# Altium footprint library Symbol.PcbLib: 206 footprints (part 10 of 15)
Each footprint in its own frame and in the unit in brackets; x right, y up, seen from the top. Pads: shape width x height; smd on the part's side, far side on the other; paste and mask are expansions set on the pad; w line width, h text height; cw(c..) or ccw(c..) is an arc to the next point about the centre after c.
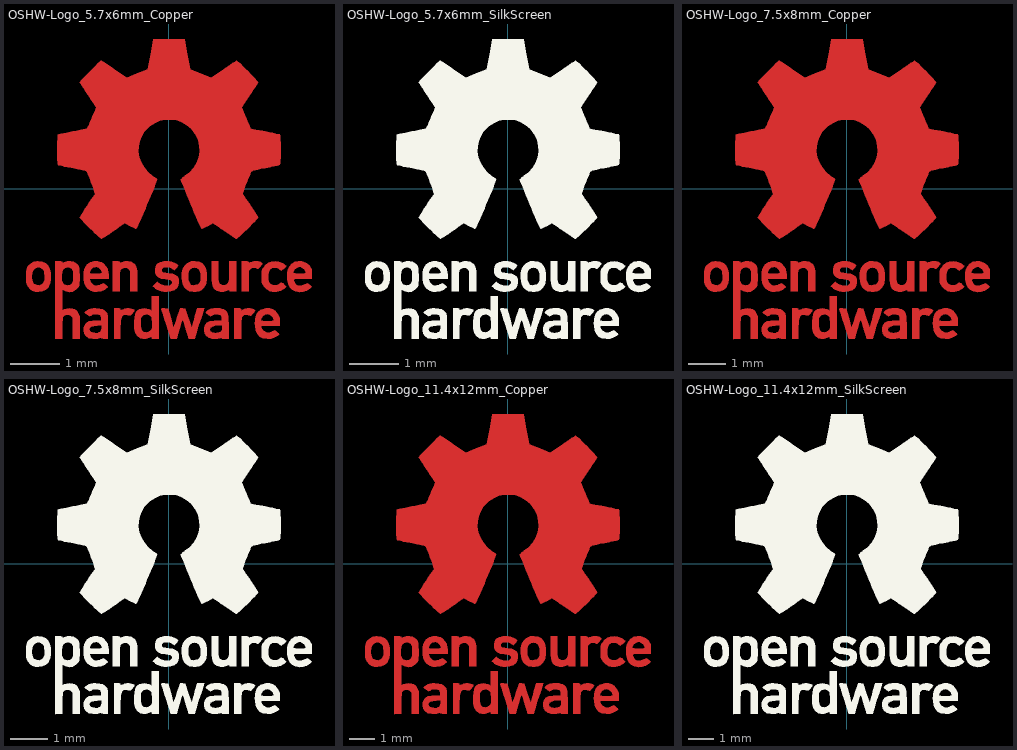
[diagram p9: the footprints below, top view; thin cyan lines are the x and y axes]

## OSHW-Logo_5.7x6mm_Copper [mm]
F.Cu:
  region: 1.799,-1.458 1.843,-1.471 1.871,-1.488 1.88,-1.501 1.877,-1.517 1.861,-1.541 1.847,-1.559 1.819,-1.59 1.798,-1.604 1.78,-1.603 1.726,-1.589 1.687,-1.59 1.655,-1.605 1.644,-1.614 1.61,-1.646 1.61,-2.062 1.471,-2.062 1.471,-1.459 1.54,-1.459 1.582,-1.46 1.603,-1.466 1.61,-1.477 1.61,-1.478 1.612,-1.49 1.626,-1.488 1.644,-1.48 1.682,-1.464 1.713,-1.454 1.753,-1.451
  region: 1.635,-2.401 1.684,-2.411 1.711,-2.425 1.74,-2.449 1.699,-2.501 1.673,-2.532 1.656,-2.547 1.639,-2.55 1.614,-2.542 1.602,-2.538 1.554,-2.532 1.51,-2.545 1.478,-2.576 1.473,-2.585 1.467,-2.611 1.463,-2.659 1.46,-2.725 1.459,-2.806 1.459,-2.817 1.459,-3.018 1.32,-3.018 1.32,-2.402 1.389,-2.402 1.429,-2.403 1.45,-2.407 1.458,-2.418 1.459,-2.428 1.459,-2.454 1.492,-2.428 1.53,-2.41 1.581,-2.401
  region: -0.993,-2.403 -0.975,-2.409 -0.968,-2.421 -0.968,-2.427 -0.967,-2.442 -0.96,-2.445 -0.939,-2.434 -0.927,-2.427 -0.889,-2.411 -0.844,-2.403 -0.797,-2.403 -0.752,-2.409 -0.716,-2.42 -0.693,-2.436 -0.688,-2.456 -0.69,-2.462 -0.707,-2.485 -0.733,-2.513 -0.738,-2.517 -0.762,-2.538 -0.784,-2.545 -0.814,-2.54 -0.826,-2.537 -0.863,-2.529 -0.889,-2.533 -0.911,-2.545 -0.931,-2.561 -0.946,-2.581 -0.956,-2.609 -0.963,-2.648 -0.967,-2.704 -0.968,-2.779 -0.968,-2.824 -0.968,-3.018 -1.094,-3.018 -1.094,-2.402 -1.031,-2.402
  region: 1.358,-2.062 1.289,-2.062 1.247,-2.06 1.226,-2.055 1.22,-2.043 1.216,-2.033 1.202,-2.035 1.173,-2.05 1.106,-2.071 1.036,-2.07 0.968,-2.046 0.936,-2.027 0.912,-2.007 0.894,-1.982 0.881,-1.947 0.874,-1.901 0.87,-1.839 0.868,-1.758 0.868,-1.695 0.868,-1.459 0.993,-1.459 0.993,-1.654 0.995,-1.747 0.999,-1.817 1.008,-1.867 1.022,-1.902 1.042,-1.923 1.071,-1.933 1.107,-1.936 1.144,-1.933 1.172,-1.922 1.192,-1.9 1.206,-1.865 1.214,-1.814 1.219,-1.742 1.22,-1.654 1.22,-1.459 1.358,-1.459
  region: -0.754,-1.469 -0.723,-1.484 -0.692,-1.506 -0.669,-1.53 -0.653,-1.562 -0.641,-1.604 -0.634,-1.66 -0.63,-1.734 -0.629,-1.829 -0.629,-1.839 -0.629,-2.062 -0.767,-2.062 -0.767,-1.856 -0.767,-1.78 -0.768,-1.725 -0.77,-1.687 -0.773,-1.661 -0.779,-1.643 -0.788,-1.63 -0.8,-1.618 -0.843,-1.59 -0.89,-1.585 -0.934,-1.602 -0.95,-1.615 -0.961,-1.627 -0.969,-1.641 -0.975,-1.659 -0.978,-1.686 -0.98,-1.726 -0.981,-1.784 -0.981,-1.854 -0.981,-2.062 -1.119,-2.062 -1.119,-1.459 -1.05,-1.459 -1.008,-1.46 -0.987,-1.466 -0.981,-1.477 -0.981,-1.478 -0.978,-1.489 -0.965,-1.488 -0.94,-1.475 -0.883,-1.457 -0.817,-1.455
  region: 2.217,-1.464 2.29,-1.495 2.313,-1.51 2.342,-1.533 2.361,-1.551 2.364,-1.557 2.355,-1.57 2.332,-1.593 2.313,-1.608 2.263,-1.649 2.223,-1.615 2.192,-1.594 2.162,-1.586 2.127,-1.588 2.073,-1.602 2.035,-1.63 2.012,-1.675 2.002,-1.741 2.002,-1.815 2.016,-1.869 2.044,-1.906 2.063,-1.918 2.114,-1.934 2.168,-1.934 2.215,-1.919 2.226,-1.911 2.253,-1.893 2.275,-1.889 2.299,-1.903 2.325,-1.929 2.366,-1.971 2.32,-2.008 2.25,-2.051 2.17,-2.072 2.087,-2.07 2.033,-2.056 1.969,-2.022 1.918,-1.968 1.895,-1.93 1.876,-1.876 1.867,-1.806 1.867,-1.731 1.876,-1.659 1.894,-1.599 1.897,-1.593 1.94,-1.532 1.998,-1.488 2.067,-1.461 2.141,-1.453
  region: 0.611,-1.466 0.674,-1.501 0.724,-1.555 0.748,-1.6 0.758,-1.639 0.764,-1.695 0.767,-1.76 0.766,-1.824 0.761,-1.881 0.755,-1.912 0.734,-1.953 0.698,-1.997 0.656,-2.036 0.613,-2.061 0.612,-2.061 0.56,-2.072 0.497,-2.073 0.438,-2.063 0.415,-2.055 0.356,-2.021 0.314,-1.978 0.286,-1.92 0.271,-1.844 0.267,-1.804 0.268,-1.754 0.268,-1.698 0.285,-1.611 0.319,-1.543 0.369,-1.494 0.435,-1.464 0.45,-1.46 0.535,-1.452 hole: 0.522,-1.586 0.475,-1.596 0.439,-1.621 0.42,-1.642 0.409,-1.662 0.404,-1.69 0.402,-1.733 0.402,-1.754 0.407,-1.827 0.42,-1.882 0.441,-1.918 0.456,-1.928 0.493,-1.935 0.539,-1.933 0.577,-1.923 0.588,-1.917 0.615,-1.885 0.632,-1.835 0.64,-1.774 0.636,-1.708 0.628,-1.669 0.604,-1.624 0.567,-1.595
  region: 0.282,-2.404 0.331,-2.408 0.461,-2.798 0.482,-2.729 0.494,-2.686 0.51,-2.628 0.528,-2.565 0.537,-2.531 0.571,-2.402 0.714,-2.402 0.672,-2.537 0.651,-2.603 0.625,-2.684 0.599,-2.767 0.575,-2.842 0.521,-3.012 0.463,-3.015 0.404,-3.019 0.373,-2.915 0.353,-2.85 0.332,-2.778 0.313,-2.715 0.313,-2.713 0.299,-2.67 0.286,-2.641 0.278,-2.63 0.276,-2.631 0.27,-2.648 0.258,-2.685 0.242,-2.736 0.224,-2.798 0.214,-2.832 0.159,-3.018 0.043,-3.018 -0.049,-2.725 -0.075,-2.643 -0.099,-2.569 -0.119,-2.506 -0.135,-2.457 -0.145,-2.426 -0.148,-2.417 -0.146,-2.407 -0.127,-2.403 -0.087,-2.404 -0.081,-2.404 -0.008,-2.408 0.04,-2.584 0.058,-2.648 0.073,-2.705 0.086,-2.748 0.094,-2.775 0.095,-2.779 0.101,-2.774 0.113,-2.749 0.13,-2.706 0.15,-2.65 0.167,-2.599 0.232,-2.401
  region: -2.538,-1.465 -2.472,-1.494 -2.423,-1.543 -2.388,-1.611 -2.37,-1.699 -2.369,-1.712 -2.368,-1.809 -2.381,-1.894 -2.408,-1.962 -2.423,-1.984 -2.473,-2.031 -2.538,-2.061 -2.61,-2.074 -2.683,-2.067 -2.739,-2.048 -2.787,-2.015 -2.826,-1.971 -2.827,-1.97 -2.843,-1.943 -2.853,-1.916 -2.86,-1.882 -2.863,-1.834 -2.865,-1.795 -2.866,-1.759 -2.866,-1.717 -2.864,-1.658 -2.856,-1.614 -2.843,-1.579 -2.822,-1.549 -2.814,-1.539 -2.766,-1.494 -2.714,-1.467 -2.651,-1.456 -2.62,-1.455 hole: -2.637,-1.588 -2.678,-1.603 -2.713,-1.635 -2.733,-1.687 -2.74,-1.759 -2.739,-1.795 -2.734,-1.842 -2.726,-1.872 -2.712,-1.894 -2.699,-1.907 -2.652,-1.933 -2.603,-1.937 -2.557,-1.918 -2.534,-1.896 -2.517,-1.875 -2.507,-1.854 -2.503,-1.828 -2.503,-1.788 -2.504,-1.751 -2.507,-1.698 -2.512,-1.664 -2.52,-1.641 -2.533,-1.624 -2.544,-1.615 -2.589,-1.589
  region: -0.201,-3.018 -0.27,-3.018 -0.31,-3.017 -0.331,-3.012 -0.339,-3.001 -0.34,-2.994 -0.341,-2.98 -0.349,-2.977 -0.37,-2.986 -0.386,-2.994 -0.449,-3.014 -0.517,-3.015 -0.573,-3 -0.624,-2.965 -0.664,-2.913 -0.685,-2.851 -0.686,-2.848 -0.689,-2.811 -0.691,-2.757 -0.691,-2.716 -0.691,-2.696 -0.69,-2.663 -0.684,-2.581 -0.671,-2.52 -0.649,-2.474 -0.618,-2.441 -0.587,-2.421 -0.544,-2.407 -0.491,-2.402 -0.436,-2.406 -0.39,-2.418 -0.365,-2.433 -0.34,-2.456 -0.34,-2.163 -0.201,-2.163 hole: -0.463,-2.532 -0.504,-2.545 -0.534,-2.573 -0.537,-2.578 -0.547,-2.612 -0.552,-2.661 -0.553,-2.716 -0.55,-2.77 -0.543,-2.815 -0.533,-2.84 -0.496,-2.874 -0.452,-2.887 -0.407,-2.877 -0.368,-2.847 -0.353,-2.827 -0.345,-2.803 -0.34,-2.768 -0.34,-2.716 -0.341,-2.664 -0.346,-2.619 -0.353,-2.588 -0.354,-2.585 -0.38,-2.553 -0.42,-2.535
  region: 2.678,-1.456 2.71,-1.464 2.772,-1.493 2.825,-1.537 2.861,-1.589 2.866,-1.601 2.873,-1.632 2.878,-1.677 2.88,-1.723 2.88,-1.811 2.697,-1.811 2.622,-1.811 2.569,-1.813 2.535,-1.817 2.518,-1.826 2.514,-1.84 2.521,-1.86 2.533,-1.884 2.566,-1.925 2.612,-1.945 2.669,-1.944 2.733,-1.922 2.788,-1.895 2.834,-1.932 2.88,-1.968 2.837,-2.008 2.779,-2.046 2.708,-2.068 2.632,-2.075 2.558,-2.063 2.546,-2.059 2.481,-2.026 2.433,-1.975 2.4,-1.906 2.382,-1.818 2.382,-1.816 2.381,-1.72 2.387,-1.686 2.397,-1.635 2.429,-1.564 2.475,-1.509 2.533,-1.471 2.601,-1.453 hole: 2.658,-1.579 2.616,-1.58 2.574,-1.598 2.539,-1.629 2.518,-1.666 2.515,-1.686 2.527,-1.691 2.558,-1.695 2.605,-1.697 2.635,-1.698 2.691,-1.697 2.725,-1.696 2.744,-1.692 2.75,-1.685 2.748,-1.674 2.747,-1.669 2.724,-1.627 2.689,-1.594
  region: 0.014,-1.456 0.062,-1.465 0.111,-1.484 0.116,-1.487 0.154,-1.506 0.18,-1.525 0.188,-1.537 0.18,-1.556 0.161,-1.584 0.152,-1.594 0.117,-1.636 0.071,-1.609 0.027,-1.591 -0.023,-1.581 -0.071,-1.581 -0.109,-1.59 -0.117,-1.595 -0.135,-1.621 -0.137,-1.651 -0.124,-1.674 -0.116,-1.679 -0.094,-1.684 -0.054,-1.691 -0.005,-1.697 0.004,-1.698 0.083,-1.712 0.14,-1.735 0.178,-1.77 0.199,-1.818 0.206,-1.878 0.197,-1.945 0.167,-1.998 0.117,-2.037 0.047,-2.061 -0.031,-2.071 -0.095,-2.071 -0.147,-2.062 -0.182,-2.05 -0.227,-2.029 -0.268,-2.005 -0.283,-1.994 -0.321,-1.963 -0.275,-1.917 -0.23,-1.871 -0.178,-1.905 -0.126,-1.931 -0.071,-1.944 -0.017,-1.946 0.028,-1.935 0.06,-1.914 0.07,-1.895 0.069,-1.865 0.043,-1.843 -0.007,-1.827 -0.061,-1.82 -0.145,-1.806 -0.207,-1.78 -0.248,-1.741 -0.27,-1.688 -0.273,-1.625 -0.258,-1.56 -0.225,-1.51 -0.171,-1.476 -0.099,-1.458 -0.045,-1.455
  region: 2.033,-2.405 2.093,-2.421 2.143,-2.453 2.167,-2.477 2.207,-2.534 2.23,-2.6 2.238,-2.681 2.238,-2.688 2.238,-2.754 1.858,-2.754 1.866,-2.788 1.881,-2.82 1.907,-2.852 1.912,-2.857 1.958,-2.886 2.01,-2.89 2.071,-2.872 2.081,-2.867 2.112,-2.852 2.133,-2.843 2.137,-2.842 2.15,-2.85 2.174,-2.869 2.187,-2.879 2.212,-2.903 2.221,-2.919 2.215,-2.934 2.212,-2.938 2.191,-2.955 2.156,-2.976 2.131,-2.988 2.062,-3.01 1.985,-3.017 1.913,-3.009 1.892,-3.003 1.829,-2.969 1.783,-2.917 1.752,-2.846 1.737,-2.757 1.736,-2.71 1.74,-2.641 1.743,-2.61 1.764,-2.531 1.8,-2.471 1.852,-2.431 1.92,-2.408 1.957,-2.404 hole: 1.991,-2.525 1.942,-2.534 1.9,-2.561 1.871,-2.6 1.861,-2.641 1.873,-2.646 1.904,-2.65 1.95,-2.653 1.98,-2.653 2.036,-2.653 2.071,-2.651 2.09,-2.647 2.098,-2.639 2.1,-2.628 2.089,-2.594 2.062,-2.561 2.026,-2.535
  region: -1.357,-1.473 -1.344,-1.479 -1.301,-1.51 -1.26,-1.557 -1.229,-1.608 -1.22,-1.631 -1.213,-1.673 -1.208,-1.724 -1.207,-1.745 -1.207,-1.811 -1.587,-1.811 -1.579,-1.845 -1.559,-1.886 -1.524,-1.922 -1.483,-1.944 -1.457,-1.949 -1.421,-1.943 -1.378,-1.929 -1.364,-1.922 -1.31,-1.896 -1.265,-1.93 -1.238,-1.954 -1.224,-1.973 -1.223,-1.979 -1.236,-1.993 -1.263,-2.014 -1.288,-2.03 -1.356,-2.06 -1.431,-2.073 -1.506,-2.07 -1.565,-2.052 -1.627,-2.013 -1.671,-1.962 -1.698,-1.895 -1.71,-1.811 -1.711,-1.773 -1.707,-1.685 -1.706,-1.682 -1.692,-1.616 -1.666,-1.56 -1.634,-1.521 -1.574,-1.478 -1.504,-1.455 -1.43,-1.453 hole: -1.464,-1.579 -1.512,-1.591 -1.552,-1.622 -1.577,-1.668 -1.578,-1.669 -1.581,-1.682 -1.577,-1.691 -1.563,-1.695 -1.533,-1.697 -1.485,-1.698 -1.466,-1.698 -1.408,-1.697 -1.372,-1.694 -1.353,-1.689 -1.346,-1.681 -1.345,-1.679 -1.353,-1.658 -1.373,-1.63 -1.382,-1.62 -1.413,-1.591 -1.446,-1.58
  region: 1.038,-2.405 1.091,-2.418 1.107,-2.425 1.136,-2.443 1.159,-2.463 1.176,-2.489 1.188,-2.524 1.196,-2.572 1.201,-2.636 1.204,-2.72 1.205,-2.776 1.209,-3.018 1.139,-3.018 1.096,-3.016 1.074,-3.01 1.069,-3 1.066,-2.989 1.052,-2.991 1.034,-3 0.989,-3.013 0.93,-3.017 0.868,-3.011 0.814,-2.996 0.809,-2.993 0.759,-2.958 0.726,-2.909 0.711,-2.852 0.712,-2.832 0.714,-2.792 0.737,-2.735 0.768,-2.697 0.786,-2.68 0.805,-2.669 0.829,-2.662 0.864,-2.658 0.917,-2.656 0.938,-2.655 1.069,-2.651 1.069,-2.611 1.064,-2.569 1.045,-2.544 1.008,-2.528 1.007,-2.528 0.954,-2.521 0.903,-2.53 0.865,-2.55 0.849,-2.56 0.833,-2.558 0.807,-2.544 0.792,-2.534 0.763,-2.512 0.745,-2.496 0.742,-2.491 0.754,-2.467 0.789,-2.438 0.805,-2.428 0.849,-2.412 0.908,-2.402 0.974,-2.4 hole: 1.069,-2.754 1.008,-2.754 0.936,-2.757 0.886,-2.769 0.855,-2.789 0.848,-2.798 0.836,-2.832 0.846,-2.859 0.879,-2.879 0.931,-2.89 0.959,-2.891 1.005,-2.888 1.036,-2.874 1.044,-2.867 1.064,-2.831 1.069,-2.798
  region: -1.384,-2.407 -1.325,-2.422 -1.28,-2.451 -1.248,-2.488 -1.238,-2.504 -1.231,-2.521 -1.226,-2.543 -1.223,-2.573 -1.221,-2.615 -1.22,-2.674 -1.22,-2.753 -1.22,-2.774 -1.22,-3.018 -1.28,-3.018 -1.319,-3.015 -1.347,-3.008 -1.354,-3.004 -1.374,-2.997 -1.394,-3.004 -1.426,-3.013 -1.474,-3.017 -1.527,-3.015 -1.575,-3.009 -1.603,-3 -1.658,-2.965 -1.692,-2.916 -1.707,-2.852 -1.707,-2.85 -1.706,-2.822 -1.704,-2.78 -1.681,-2.724 -1.637,-2.682 -1.631,-2.678 -1.605,-2.665 -1.573,-2.658 -1.528,-2.654 -1.474,-2.653 -1.358,-2.653 -1.358,-2.604 -1.363,-2.567 -1.376,-2.541 -1.377,-2.54 -1.405,-2.529 -1.447,-2.525 -1.494,-2.527 -1.535,-2.535 -1.56,-2.547 -1.573,-2.557 -1.587,-2.559 -1.607,-2.551 -1.636,-2.531 -1.68,-2.497 -1.684,-2.494 -1.682,-2.482 -1.665,-2.463 -1.638,-2.441 -1.61,-2.423 -1.6,-2.419 -1.567,-2.41 -1.519,-2.404 -1.465,-2.402 -1.462,-2.402 hole: -1.358,-2.754 -1.428,-2.754 -1.494,-2.759 -1.544,-2.773 -1.575,-2.796 -1.584,-2.822 -1.574,-2.854 -1.556,-2.873 -1.522,-2.886 -1.476,-2.892 -1.429,-2.889 -1.392,-2.878 -1.381,-2.871 -1.363,-2.839 -1.358,-2.802
  region: -1.909,-1.469 -1.882,-1.482 -1.85,-1.505 -1.826,-1.53 -1.809,-1.561 -1.799,-1.603 -1.794,-1.66 -1.792,-1.736 -1.792,-1.769 -1.792,-1.841 -1.794,-1.892 -1.796,-1.927 -1.802,-1.952 -1.81,-1.97 -1.818,-1.982 -1.87,-2.034 -1.932,-2.065 -1.999,-2.075 -2.066,-2.061 -2.087,-2.051 -2.138,-2.025 -2.138,-2.44 -2.101,-2.421 -2.052,-2.406 -1.992,-2.402 -1.932,-2.409 -1.886,-2.425 -1.849,-2.455 -1.817,-2.498 -1.814,-2.502 -1.804,-2.523 -1.797,-2.544 -1.791,-2.57 -1.788,-2.604 -1.786,-2.651 -1.786,-2.715 -1.786,-2.787 -1.786,-3.018 -1.924,-3.018 -1.924,-2.593 -1.963,-2.56 -2.003,-2.534 -2.041,-2.529 -2.079,-2.541 -2.099,-2.553 -2.115,-2.57 -2.125,-2.596 -2.133,-2.634 -2.137,-2.688 -2.14,-2.761 -2.141,-2.81 -2.144,-3.012 -2.21,-3.015 -2.276,-3.019 -2.276,-1.771 -2.276,-1.459 -2.207,-1.459 -2.165,-1.46 -2.144,-1.466 -2.138,-1.477 -2.138,-1.478 -2.135,-1.489 -2.122,-1.488 -2.097,-1.475 -2.038,-1.457 -1.972,-1.455 hole: -2.052,-1.585 -2.08,-1.592 -2.109,-1.616 -2.128,-1.664 -2.137,-1.734 -2.138,-1.771 -2.134,-1.84 -2.122,-1.889 -2.1,-1.919 -2.066,-1.933 -2.031,-1.936 -1.991,-1.933 -1.965,-1.92 -1.949,-1.902 -1.936,-1.883 -1.928,-1.862 -1.925,-1.832 -1.925,-1.787 -1.926,-1.75 -1.929,-1.694 -1.932,-1.657 -1.939,-1.633 -1.95,-1.617 -1.96,-1.608 -2.002,-1.589
  region: 336 vertices and 0 holes, not listed, extent -2.24,-1.006 2.252,3.012

## OSHW-Logo_5.7x6mm_SilkScreen [mm]
F.SilkS:
  drawing of 18 lines, arcs and shapes, not listed

## OSHW-Logo_7.5x8mm_Copper [mm]
F.Cu:
  region: 2.391,-1.938 2.449,-1.955 2.486,-1.977 2.498,-1.995 2.495,-2.016 2.473,-2.048 2.455,-2.072 2.417,-2.113 2.389,-2.131 2.365,-2.13 2.294,-2.112 2.241,-2.113 2.199,-2.133 2.185,-2.145 2.139,-2.187 2.139,-2.741 1.955,-2.741 1.955,-1.938 2.047,-1.938 2.102,-1.941 2.131,-1.948 2.139,-1.963 2.139,-1.964 2.143,-1.98 2.16,-1.978 2.185,-1.966 2.235,-1.945 2.276,-1.932 2.329,-1.929
  region: 2.173,-3.191 2.237,-3.204 2.274,-3.223 2.312,-3.254 2.258,-3.323 2.224,-3.365 2.201,-3.385 2.178,-3.389 2.145,-3.378 2.129,-3.373 2.066,-3.364 2.007,-3.382 1.964,-3.423 1.957,-3.436 1.95,-3.47 1.944,-3.533 1.94,-3.621 1.938,-3.729 1.938,-3.744 1.938,-4.011 1.755,-4.011 1.755,-3.192 1.847,-3.192 1.9,-3.193 1.927,-3.199 1.937,-3.213 1.938,-3.226 1.938,-3.261 1.982,-3.226 2.033,-3.203 2.101,-3.191
  region: -1.32,-3.193 -1.295,-3.201 -1.287,-3.217 -1.287,-3.225 -1.285,-3.246 -1.275,-3.249 -1.248,-3.235 -1.232,-3.225 -1.182,-3.204 -1.122,-3.194 -1.059,-3.193 -0.999,-3.201 -0.951,-3.216 -0.92,-3.237 -0.914,-3.264 -0.917,-3.272 -0.94,-3.302 -0.974,-3.339 -0.98,-3.345 -1.013,-3.373 -1.042,-3.382 -1.081,-3.376 -1.097,-3.371 -1.146,-3.361 -1.181,-3.366 -1.211,-3.382 -1.237,-3.403 -1.257,-3.43 -1.271,-3.467 -1.28,-3.52 -1.285,-3.593 -1.287,-3.693 -1.287,-3.753 -1.287,-4.011 -1.454,-4.011 -1.454,-3.192 -1.37,-3.192
  region: 1.805,-2.741 1.713,-2.741 1.657,-2.738 1.629,-2.73 1.621,-2.715 1.616,-2.702 1.597,-2.705 1.559,-2.724 1.47,-2.753 1.377,-2.751 1.287,-2.719 1.244,-2.694 1.212,-2.667 1.188,-2.633 1.171,-2.588 1.161,-2.526 1.156,-2.444 1.153,-2.336 1.153,-2.252 1.153,-1.938 1.32,-1.938 1.32,-2.199 1.322,-2.321 1.327,-2.414 1.339,-2.482 1.358,-2.527 1.385,-2.555 1.423,-2.569 1.471,-2.572 1.52,-2.568 1.557,-2.554 1.584,-2.525 1.603,-2.479 1.614,-2.41 1.62,-2.316 1.621,-2.199 1.621,-1.938 1.805,-1.938
  region: -1.002,-1.952 -0.96,-1.972 -0.92,-2.001 -0.889,-2.034 -0.867,-2.076 -0.852,-2.132 -0.842,-2.207 -0.838,-2.305 -0.836,-2.431 -0.836,-2.444 -0.836,-2.741 -1.019,-2.741 -1.019,-2.467 -1.019,-2.366 -1.02,-2.292 -1.023,-2.241 -1.028,-2.207 -1.035,-2.184 -1.047,-2.167 -1.063,-2.15 -1.12,-2.113 -1.183,-2.106 -1.242,-2.129 -1.262,-2.147 -1.278,-2.163 -1.288,-2.18 -1.296,-2.204 -1.3,-2.24 -1.302,-2.294 -1.303,-2.371 -1.303,-2.464 -1.303,-2.741 -1.487,-2.741 -1.487,-1.938 -1.395,-1.938 -1.34,-1.941 -1.312,-1.948 -1.303,-1.963 -1.303,-1.964 -1.3,-1.979 -1.283,-1.977 -1.249,-1.961 -1.173,-1.937 -1.086,-1.934
  region: 2.947,-1.945 3.043,-1.987 3.074,-2.007 3.113,-2.037 3.137,-2.062 3.142,-2.069 3.13,-2.087 3.099,-2.117 3.074,-2.137 3.007,-2.191 2.954,-2.147 2.913,-2.118 2.873,-2.108 2.827,-2.11 2.754,-2.128 2.704,-2.166 2.674,-2.227 2.66,-2.314 2.661,-2.412 2.68,-2.484 2.717,-2.533 2.742,-2.549 2.809,-2.57 2.881,-2.57 2.943,-2.55 2.958,-2.54 2.995,-2.515 3.024,-2.511 3.055,-2.53 3.089,-2.563 3.144,-2.619 3.083,-2.669 2.99,-2.726 2.884,-2.753 2.774,-2.751 2.701,-2.733 2.617,-2.687 2.549,-2.616 2.518,-2.565 2.493,-2.492 2.481,-2.401 2.481,-2.301 2.493,-2.205 2.517,-2.125 2.521,-2.117 2.578,-2.036 2.655,-1.978 2.746,-1.942 2.846,-1.931
  region: 0.812,-1.948 0.896,-1.994 0.962,-2.067 0.993,-2.126 1.007,-2.178 1.016,-2.253 1.019,-2.338 1.018,-2.425 1.011,-2.5 1.003,-2.541 0.975,-2.596 0.928,-2.655 0.871,-2.706 0.815,-2.739 0.814,-2.74 0.744,-2.754 0.661,-2.754 0.582,-2.741 0.552,-2.731 0.473,-2.686 0.417,-2.628 0.38,-2.551 0.36,-2.45 0.355,-2.397 0.356,-2.331 0.356,-2.256 0.379,-2.14 0.424,-2.05 0.49,-1.985 0.579,-1.945 0.597,-1.941 0.711,-1.93 hole: 0.693,-2.107 0.631,-2.121 0.584,-2.154 0.559,-2.182 0.544,-2.209 0.537,-2.246 0.535,-2.303 0.535,-2.331 0.541,-2.428 0.558,-2.502 0.586,-2.549 0.605,-2.562 0.656,-2.572 0.716,-2.569 0.767,-2.555 0.781,-2.548 0.817,-2.504 0.84,-2.438 0.851,-2.357 0.846,-2.271 0.835,-2.218 0.803,-2.158 0.753,-2.12
  region: 0.374,-3.195 0.44,-3.2 0.527,-3.459 0.613,-3.718 0.64,-3.626 0.656,-3.569 0.678,-3.493 0.701,-3.408 0.713,-3.363 0.759,-3.192 0.949,-3.192 0.893,-3.371 0.865,-3.46 0.831,-3.566 0.796,-3.677 0.764,-3.777 0.692,-4.002 0.537,-4.012 0.495,-3.874 0.469,-3.787 0.441,-3.692 0.416,-3.608 0.415,-3.605 0.397,-3.548 0.381,-3.509 0.369,-3.495 0.367,-3.496 0.359,-3.519 0.343,-3.568 0.322,-3.637 0.297,-3.719 0.284,-3.764 0.211,-4.011 0.057,-4.011 -0.065,-3.622 -0.1,-3.513 -0.131,-3.414 -0.158,-3.33 -0.179,-3.265 -0.193,-3.224 -0.197,-3.212 -0.193,-3.199 -0.168,-3.194 -0.116,-3.195 -0.108,-3.195 -0.011,-3.2 0.053,-3.434 0.076,-3.519 0.097,-3.594 0.114,-3.653 0.124,-3.687 0.126,-3.693 0.134,-3.686 0.15,-3.653 0.173,-3.596 0.199,-3.522 0.222,-3.454 0.308,-3.19
  region: -3.373,-1.947 -3.286,-1.986 -3.219,-2.05 -3.174,-2.141 -3.149,-2.257 -3.148,-2.276 -3.146,-2.404 -3.164,-2.516 -3.2,-2.608 -3.22,-2.637 -3.287,-2.699 -3.372,-2.739 -3.468,-2.756 -3.566,-2.748 -3.64,-2.721 -3.704,-2.677 -3.756,-2.62 -3.757,-2.618 -3.778,-2.583 -3.792,-2.547 -3.8,-2.502 -3.805,-2.438 -3.807,-2.385 -3.808,-2.338 -3.809,-2.281 -3.806,-2.203 -3.796,-2.145 -3.778,-2.099 -3.75,-2.058 -3.74,-2.046 -3.676,-1.985 -3.607,-1.95 -3.523,-1.935 -3.482,-1.934 hole: -3.505,-2.11 -3.559,-2.13 -3.605,-2.172 -3.632,-2.241 -3.641,-2.338 -3.64,-2.385 -3.634,-2.448 -3.623,-2.488 -3.604,-2.517 -3.587,-2.534 -3.524,-2.569 -3.459,-2.574 -3.398,-2.548 -3.367,-2.52 -3.345,-2.492 -3.332,-2.464 -3.327,-2.429 -3.326,-2.376 -3.328,-2.327 -3.332,-2.256 -3.338,-2.211 -3.348,-2.181 -3.366,-2.159 -3.381,-2.146 -3.44,-2.112
  region: -0.267,-4.011 -0.359,-4.011 -0.413,-4.009 -0.44,-4.002 -0.45,-3.988 -0.451,-3.979 -0.453,-3.96 -0.464,-3.956 -0.491,-3.968 -0.513,-3.979 -0.597,-4.005 -0.687,-4.006 -0.761,-3.987 -0.83,-3.94 -0.882,-3.871 -0.911,-3.789 -0.912,-3.785 -0.916,-3.735 -0.918,-3.664 -0.918,-3.61 -0.918,-3.582 -0.917,-3.538 -0.908,-3.43 -0.891,-3.349 -0.863,-3.288 -0.821,-3.244 -0.78,-3.217 -0.723,-3.199 -0.653,-3.193 -0.58,-3.198 -0.518,-3.214 -0.485,-3.233 -0.451,-3.264 -0.451,-2.874 -0.267,-2.874 hole: -0.616,-3.365 -0.67,-3.382 -0.71,-3.419 -0.714,-3.426 -0.727,-3.471 -0.734,-3.536 -0.735,-3.61 -0.731,-3.681 -0.721,-3.741 -0.708,-3.774 -0.659,-3.82 -0.601,-3.836 -0.54,-3.823 -0.489,-3.783 -0.469,-3.757 -0.458,-3.725 -0.453,-3.679 -0.451,-3.609 -0.454,-3.54 -0.46,-3.48 -0.469,-3.44 -0.47,-3.436 -0.506,-3.393 -0.558,-3.369
  region: 3.559,-1.936 3.602,-1.946 3.684,-1.984 3.754,-2.042 3.802,-2.112 3.809,-2.128 3.818,-2.168 3.825,-2.229 3.827,-2.29 3.827,-2.406 3.584,-2.406 3.484,-2.407 3.414,-2.409 3.369,-2.415 3.346,-2.426 3.341,-2.445 3.35,-2.472 3.366,-2.504 3.41,-2.558 3.472,-2.584 3.547,-2.583 3.632,-2.554 3.706,-2.519 3.767,-2.567 3.828,-2.615 3.77,-2.668 3.694,-2.718 3.599,-2.749 3.498,-2.757 3.4,-2.742 3.384,-2.737 3.298,-2.692 3.234,-2.625 3.19,-2.533 3.166,-2.416 3.166,-2.414 3.164,-2.286 3.172,-2.24 3.185,-2.173 3.228,-2.079 3.289,-2.005 3.366,-1.955 3.457,-1.931 hole: 3.532,-2.098 3.477,-2.099 3.421,-2.124 3.374,-2.165 3.346,-2.214 3.342,-2.24 3.358,-2.247 3.4,-2.252 3.462,-2.255 3.502,-2.256 3.576,-2.256 3.622,-2.254 3.646,-2.249 3.654,-2.24 3.652,-2.224 3.65,-2.218 3.621,-2.163 3.574,-2.118
  region: 0.019,-1.936 0.082,-1.948 0.148,-1.973 0.155,-1.976 0.204,-2.002 0.239,-2.026 0.25,-2.042 0.239,-2.067 0.214,-2.105 0.202,-2.119 0.155,-2.174 0.094,-2.138 0.036,-2.114 -0.031,-2.101 -0.095,-2.101 -0.144,-2.113 -0.156,-2.12 -0.179,-2.154 -0.182,-2.194 -0.165,-2.225 -0.155,-2.231 -0.124,-2.238 -0.072,-2.247 -0.006,-2.255 0.006,-2.257 0.11,-2.275 0.186,-2.306 0.237,-2.352 0.265,-2.416 0.273,-2.495 0.261,-2.585 0.222,-2.655 0.156,-2.707 0.062,-2.739 -0.042,-2.752 -0.127,-2.752 -0.195,-2.74 -0.242,-2.724 -0.302,-2.696 -0.356,-2.664 -0.376,-2.65 -0.426,-2.609 -0.305,-2.486 -0.236,-2.532 -0.168,-2.566 -0.094,-2.584 -0.023,-2.586 0.037,-2.572 0.08,-2.543 0.093,-2.518 0.091,-2.479 0.057,-2.449 -0.009,-2.428 -0.081,-2.418 -0.192,-2.4 -0.275,-2.365 -0.33,-2.313 -0.359,-2.243 -0.363,-2.16 -0.343,-2.073 -0.298,-2.007 -0.228,-1.962 -0.131,-1.938 -0.06,-1.933
  region: 2.701,-3.196 2.781,-3.217 2.848,-3.26 2.88,-3.292 2.933,-3.367 2.964,-3.455 2.974,-3.563 2.974,-3.572 2.974,-3.66 2.47,-3.66 2.48,-3.706 2.5,-3.747 2.534,-3.791 2.541,-3.797 2.602,-3.835 2.672,-3.841 2.752,-3.817 2.766,-3.81 2.807,-3.79 2.835,-3.778 2.84,-3.777 2.857,-3.788 2.89,-3.813 2.906,-3.827 2.94,-3.858 2.951,-3.879 2.944,-3.899 2.94,-3.904 2.911,-3.927 2.865,-3.955 2.832,-3.971 2.74,-4 2.638,-4.009 2.542,-3.998 2.515,-3.99 2.431,-3.946 2.369,-3.877 2.329,-3.783 2.309,-3.663 2.307,-3.601 2.313,-3.51 2.316,-3.469 2.344,-3.363 2.393,-3.284 2.462,-3.23 2.552,-3.2 2.6,-3.195 hole: 2.645,-3.355 2.581,-3.368 2.525,-3.403 2.486,-3.455 2.473,-3.51 2.489,-3.517 2.53,-3.522 2.591,-3.525 2.632,-3.526 2.706,-3.525 2.752,-3.523 2.778,-3.517 2.789,-3.507 2.791,-3.493 2.776,-3.448 2.74,-3.403 2.693,-3.369
  region: -1.803,-1.957 -1.786,-1.965 -1.729,-2.007 -1.674,-2.069 -1.634,-2.137 -1.622,-2.168 -1.611,-2.223 -1.605,-2.291 -1.604,-2.319 -1.604,-2.406 -2.109,-2.406 -2.098,-2.452 -2.072,-2.507 -2.026,-2.554 -1.971,-2.584 -1.936,-2.59 -1.888,-2.583 -1.832,-2.563 -1.812,-2.555 -1.741,-2.519 -1.68,-2.565 -1.645,-2.597 -1.627,-2.623 -1.626,-2.63 -1.643,-2.649 -1.679,-2.677 -1.712,-2.698 -1.802,-2.738 -1.902,-2.755 -2.001,-2.751 -2.08,-2.727 -2.162,-2.675 -2.22,-2.607 -2.256,-2.519 -2.273,-2.407 -2.274,-2.356 -2.269,-2.239 -2.268,-2.236 -2.249,-2.147 -2.214,-2.073 -2.171,-2.021 -2.092,-1.964 -1.999,-1.934 -1.9,-1.931 hole: -1.945,-2.099 -2.009,-2.114 -2.062,-2.156 -2.096,-2.216 -2.097,-2.218 -2.101,-2.236 -2.096,-2.247 -2.077,-2.253 -2.038,-2.255 -1.973,-2.256 -1.948,-2.256 -1.872,-2.255 -1.824,-2.252 -1.798,-2.245 -1.788,-2.235 -1.788,-2.231 -1.799,-2.204 -1.825,-2.166 -1.836,-2.153 -1.878,-2.115 -1.922,-2.1
  region: 1.38,-3.197 1.45,-3.214 1.471,-3.223 1.51,-3.247 1.541,-3.273 1.563,-3.308 1.579,-3.354 1.589,-3.418 1.596,-3.503 1.6,-3.614 1.601,-3.689 1.607,-4.011 1.514,-4.011 1.457,-4.008 1.428,-4 1.42,-3.986 1.416,-3.972 1.399,-3.975 1.374,-3.986 1.314,-4.004 1.236,-4.009 1.154,-4.001 1.081,-3.981 1.075,-3.978 1.008,-3.931 0.964,-3.866 0.944,-3.791 0.946,-3.763 0.949,-3.711 0.979,-3.635 1.02,-3.584 1.045,-3.561 1.069,-3.547 1.101,-3.538 1.148,-3.533 1.218,-3.53 1.246,-3.529 1.42,-3.523 1.42,-3.47 1.413,-3.415 1.389,-3.381 1.34,-3.36 1.338,-3.359 1.268,-3.351 1.2,-3.362 1.149,-3.389 1.129,-3.402 1.107,-3.4 1.073,-3.381 1.053,-3.367 1.014,-3.338 0.99,-3.317 0.986,-3.311 1.002,-3.279 1.049,-3.24 1.069,-3.227 1.128,-3.205 1.207,-3.192 1.295,-3.19 hole: 1.42,-3.66 1.339,-3.66 1.244,-3.664 1.178,-3.68 1.136,-3.706 1.126,-3.718 1.11,-3.763 1.125,-3.8 1.168,-3.826 1.237,-3.84 1.274,-3.842 1.336,-3.837 1.377,-3.819 1.387,-3.81 1.414,-3.762 1.42,-3.718
  region: -1.84,-3.198 -1.761,-3.219 -1.701,-3.257 -1.659,-3.307 -1.646,-3.328 -1.636,-3.35 -1.629,-3.379 -1.625,-3.419 -1.622,-3.475 -1.621,-3.554 -1.621,-3.659 -1.621,-3.687 -1.621,-4.011 -1.701,-4.011 -1.752,-4.007 -1.79,-3.998 -1.8,-3.992 -1.826,-3.983 -1.852,-3.992 -1.896,-4.004 -1.959,-4.009 -2.029,-4.007 -2.093,-3.998 -2.131,-3.987 -2.203,-3.94 -2.248,-3.876 -2.269,-3.79 -2.269,-3.788 -2.267,-3.75 -2.265,-3.694 -2.234,-3.62 -2.175,-3.564 -2.167,-3.559 -2.133,-3.542 -2.09,-3.532 -2.03,-3.527 -1.959,-3.526 -1.805,-3.526 -1.805,-3.461 -1.811,-3.411 -1.828,-3.377 -1.83,-3.375 -1.867,-3.361 -1.923,-3.355 -1.986,-3.358 -2.04,-3.369 -2.073,-3.385 -2.091,-3.398 -2.109,-3.4 -2.135,-3.39 -2.174,-3.363 -2.232,-3.318 -2.238,-3.314 -2.235,-3.299 -2.212,-3.273 -2.177,-3.244 -2.139,-3.22 -2.127,-3.214 -2.083,-3.203 -2.019,-3.195 -1.947,-3.192 -1.943,-3.192 hole: -1.805,-3.66 -1.897,-3.66 -1.985,-3.666 -2.052,-3.686 -2.093,-3.715 -2.106,-3.75 -2.091,-3.793 -2.068,-3.817 -2.022,-3.836 -1.961,-3.843 -1.899,-3.84 -1.849,-3.825 -1.835,-3.816 -1.811,-3.773 -1.805,-3.724
  region: -2.537,-1.952 -2.501,-1.97 -2.458,-2 -2.426,-2.033 -2.405,-2.075 -2.391,-2.131 -2.384,-2.206 -2.381,-2.307 -2.381,-2.351 -2.382,-2.446 -2.384,-2.514 -2.387,-2.561 -2.394,-2.594 -2.405,-2.618 -2.416,-2.634 -2.485,-2.703 -2.567,-2.745 -2.656,-2.757 -2.745,-2.739 -2.773,-2.726 -2.841,-2.691 -2.841,-3.243 -2.791,-3.217 -2.727,-3.197 -2.647,-3.192 -2.567,-3.202 -2.507,-3.223 -2.457,-3.263 -2.414,-3.32 -2.411,-3.326 -2.397,-3.353 -2.387,-3.381 -2.381,-3.415 -2.376,-3.46 -2.374,-3.523 -2.373,-3.608 -2.373,-3.704 -2.373,-4.011 -2.557,-4.011 -2.557,-3.445 -2.608,-3.402 -2.662,-3.367 -2.712,-3.361 -2.763,-3.377 -2.79,-3.393 -2.81,-3.416 -2.825,-3.45 -2.834,-3.5 -2.84,-3.572 -2.844,-3.67 -2.845,-3.735 -2.849,-4.002 -2.937,-4.007 -3.025,-4.012 -3.025,-2.353 -3.025,-1.938 -2.933,-1.938 -2.878,-1.941 -2.849,-1.948 -2.841,-1.963 -2.841,-1.964 -2.837,-1.979 -2.82,-1.977 -2.786,-1.961 -2.708,-1.936 -2.62,-1.933 hole: -2.727,-2.107 -2.765,-2.116 -2.803,-2.148 -2.827,-2.211 -2.84,-2.304 -2.841,-2.353 -2.836,-2.446 -2.82,-2.51 -2.791,-2.55 -2.745,-2.569 -2.699,-2.573 -2.646,-2.569 -2.612,-2.551 -2.59,-2.528 -2.573,-2.502 -2.563,-2.474 -2.558,-2.434 -2.558,-2.375 -2.559,-2.325 -2.563,-2.251 -2.568,-2.202 -2.577,-2.17 -2.591,-2.15 -2.605,-2.137 -2.661,-2.111
  region: 336 vertices and 0 holes, not listed, extent -2.976,-1.337 2.993,4.002

## OSHW-Logo_7.5x8mm_SilkScreen [mm]
F.SilkS:
  drawing of 18 lines, arcs and shapes, not listed

## OSHW-Logo_11.4x12mm_Copper [mm]
F.Cu:
  region: 3.564,-2.887 3.649,-2.914 3.704,-2.947 3.722,-2.973 3.717,-3.004 3.685,-3.053 3.658,-3.087 3.602,-3.149 3.56,-3.176 3.524,-3.174 3.418,-3.147 3.34,-3.148 3.277,-3.179 3.256,-3.197 3.187,-3.26 3.187,-4.084 2.914,-4.084 2.914,-2.889 3.05,-2.889 3.133,-2.892 3.175,-2.903 3.187,-2.926 3.187,-2.927 3.193,-2.95 3.22,-2.947 3.256,-2.93 3.331,-2.898 3.392,-2.879 3.471,-2.874
  region: 3.238,-4.756 3.334,-4.775 3.389,-4.803 3.446,-4.849 3.364,-4.952 3.314,-5.014 3.28,-5.045 3.246,-5.05 3.196,-5.035 3.173,-5.026 3.078,-5.014 2.991,-5.04 2.927,-5.101 2.917,-5.12 2.905,-5.171 2.897,-5.265 2.891,-5.396 2.889,-5.556 2.889,-5.579 2.889,-5.976 2.615,-5.976 2.615,-4.756 2.752,-4.756 2.831,-4.758 2.872,-4.768 2.887,-4.788 2.889,-4.808 2.889,-4.859 2.954,-4.808 3.029,-4.773 3.131,-4.755
  region: -1.967,-4.759 -1.93,-4.77 -1.918,-4.795 -1.917,-4.806 -1.915,-4.837 -1.9,-4.841 -1.86,-4.82 -1.837,-4.806 -1.761,-4.775 -1.672,-4.76 -1.577,-4.758 -1.489,-4.77 -1.417,-4.792 -1.372,-4.824 -1.363,-4.865 -1.367,-4.875 -1.4,-4.921 -1.452,-4.976 -1.461,-4.985 -1.51,-5.026 -1.552,-5.04 -1.611,-5.03 -1.635,-5.024 -1.708,-5.009 -1.76,-5.016 -1.804,-5.039 -1.844,-5.071 -1.874,-5.111 -1.894,-5.166 -1.907,-5.245 -1.914,-5.355 -1.917,-5.503 -1.917,-5.592 -1.917,-5.976 -2.166,-5.976 -2.166,-4.756 -2.042,-4.756
  region: 2.689,-4.084 2.552,-4.084 2.47,-4.081 2.427,-4.069 2.415,-4.047 2.408,-4.027 2.38,-4.031 2.322,-4.059 2.191,-4.102 2.051,-4.099 1.918,-4.052 1.854,-4.015 1.806,-3.975 1.77,-3.924 1.746,-3.857 1.73,-3.765 1.722,-3.642 1.719,-3.481 1.718,-3.356 1.718,-2.889 1.967,-2.889 1.967,-3.276 1.97,-3.459 1.978,-3.598 1.995,-3.698 2.023,-3.766 2.065,-3.808 2.121,-3.828 2.191,-3.833 2.265,-3.827 2.321,-3.806 2.361,-3.763 2.389,-3.694 2.405,-3.591 2.413,-3.451 2.415,-3.276 2.415,-2.889 2.689,-2.889
  region: -1.493,-2.909 -1.431,-2.939 -1.371,-2.982 -1.326,-3.031 -1.292,-3.094 -1.269,-3.177 -1.255,-3.288 -1.248,-3.434 -1.246,-3.622 -1.246,-3.642 -1.245,-4.084 -1.519,-4.084 -1.519,-3.676 -1.519,-3.525 -1.521,-3.416 -1.524,-3.34 -1.531,-3.289 -1.543,-3.255 -1.56,-3.229 -1.585,-3.203 -1.67,-3.149 -1.762,-3.138 -1.851,-3.173 -1.881,-3.199 -1.904,-3.223 -1.92,-3.249 -1.931,-3.285 -1.937,-3.339 -1.941,-3.418 -1.942,-3.533 -1.942,-3.672 -1.942,-4.084 -2.216,-4.084 -2.216,-2.889 -2.079,-2.889 -1.997,-2.892 -1.955,-2.903 -1.942,-2.926 -1.942,-2.927 -1.937,-2.949 -1.911,-2.946 -1.861,-2.922 -1.748,-2.886 -1.618,-2.882
  region: 4.391,-2.899 4.535,-2.96 4.581,-2.99 4.639,-3.036 4.675,-3.072 4.682,-3.084 4.664,-3.11 4.618,-3.154 4.581,-3.185 4.481,-3.266 4.402,-3.199 4.341,-3.156 4.281,-3.141 4.213,-3.145 4.104,-3.172 4.03,-3.228 3.985,-3.318 3.964,-3.448 3.964,-3.449 3.966,-3.594 3.993,-3.701 4.049,-3.774 4.086,-3.799 4.186,-3.829 4.293,-3.829 4.386,-3.8 4.408,-3.785 4.463,-3.748 4.506,-3.742 4.552,-3.769 4.604,-3.819 4.685,-3.903 4.595,-3.978 4.455,-4.062 4.298,-4.103 4.134,-4.1 4.026,-4.072 3.899,-4.005 3.798,-3.898 3.753,-3.822 3.715,-3.714 3.697,-3.577 3.697,-3.429 3.715,-3.286 3.751,-3.167 3.757,-3.155 3.842,-3.035 3.957,-2.947 4.093,-2.894 4.24,-2.878
  region: 1.21,-2.903 1.336,-2.972 1.434,-3.08 1.48,-3.168 1.5,-3.246 1.513,-3.357 1.519,-3.485 1.517,-3.613 1.506,-3.726 1.494,-3.786 1.454,-3.868 1.383,-3.956 1.298,-4.032 1.214,-4.082 1.212,-4.082 1.108,-4.104 0.985,-4.105 0.867,-4.085 0.822,-4.069 0.705,-4.003 0.622,-3.916 0.567,-3.801 0.536,-3.651 0.529,-3.572 0.53,-3.473 0.531,-3.362 0.565,-3.189 0.632,-3.055 0.731,-2.958 0.862,-2.899 0.89,-2.892 1.06,-2.876 hole: 1.033,-3.14 0.941,-3.16 0.87,-3.21 0.832,-3.252 0.811,-3.292 0.8,-3.347 0.797,-3.432 0.797,-3.473 0.806,-3.618 0.832,-3.728 0.873,-3.798 0.902,-3.818 0.977,-3.832 1.066,-3.828 1.144,-3.808 1.164,-3.797 1.217,-3.732 1.252,-3.633 1.267,-3.513 1.26,-3.383 1.244,-3.306 1.197,-3.216 1.123,-3.16
  region: 0.558,-4.761 0.656,-4.769 0.785,-5.155 0.914,-5.541 0.954,-5.404 0.978,-5.319 1.01,-5.205 1.045,-5.079 1.063,-5.012 1.132,-4.756 1.415,-4.756 1.33,-5.024 1.288,-5.156 1.238,-5.314 1.185,-5.48 1.139,-5.628 1.032,-5.964 0.801,-5.979 0.738,-5.772 0.699,-5.644 0.657,-5.502 0.62,-5.377 0.619,-5.372 0.592,-5.288 0.567,-5.23 0.55,-5.208 0.547,-5.21 0.534,-5.244 0.511,-5.317 0.48,-5.419 0.443,-5.542 0.423,-5.609 0.315,-5.976 0.086,-5.976 -0.098,-5.397 -0.149,-5.235 -0.196,-5.088 -0.236,-4.962 -0.267,-4.865 -0.287,-4.804 -0.293,-4.786 -0.288,-4.768 -0.251,-4.76 -0.173,-4.761 -0.16,-4.761 -0.016,-4.769 0.079,-5.117 0.114,-5.244 0.145,-5.356 0.17,-5.443 0.185,-5.495 0.188,-5.503 0.2,-5.494 0.224,-5.443 0.257,-5.359 0.297,-5.248 0.331,-5.147 0.459,-4.754
  region: -5.027,-2.902 -4.896,-2.959 -4.798,-3.055 -4.73,-3.19 -4.693,-3.364 -4.691,-3.391 -4.689,-3.582 -4.715,-3.75 -4.769,-3.886 -4.798,-3.93 -4.898,-4.022 -5.025,-4.082 -5.168,-4.107 -5.314,-4.094 -5.424,-4.055 -5.52,-3.99 -5.597,-3.904 -5.599,-3.902 -5.63,-3.849 -5.651,-3.795 -5.663,-3.728 -5.671,-3.633 -5.674,-3.555 -5.675,-3.484 -5.677,-3.4 -5.672,-3.284 -5.657,-3.196 -5.63,-3.128 -5.588,-3.067 -5.573,-3.049 -5.478,-2.959 -5.375,-2.906 -5.25,-2.884 -5.189,-2.882 hole: -5.223,-3.145 -5.303,-3.175 -5.372,-3.237 -5.413,-3.34 -5.426,-3.484 -5.424,-3.554 -5.415,-3.648 -5.399,-3.708 -5.371,-3.751 -5.345,-3.776 -5.252,-3.828 -5.154,-3.835 -5.063,-3.798 -5.018,-3.755 -4.985,-3.713 -4.966,-3.672 -4.957,-3.619 -4.957,-3.54 -4.959,-3.467 -4.965,-3.363 -4.974,-3.295 -4.99,-3.251 -5.017,-3.217 -5.038,-3.198 -5.127,-3.147
  region: -0.398,-5.976 -0.535,-5.976 -0.615,-5.974 -0.656,-5.964 -0.671,-5.944 -0.672,-5.929 -0.675,-5.901 -0.691,-5.895 -0.732,-5.913 -0.765,-5.929 -0.889,-5.968 -1.024,-5.97 -1.134,-5.941 -1.237,-5.872 -1.315,-5.769 -1.357,-5.647 -1.358,-5.64 -1.365,-5.566 -1.368,-5.46 -1.368,-5.379 -1.368,-5.338 -1.366,-5.273 -1.354,-5.111 -1.328,-4.99 -1.286,-4.9 -1.224,-4.834 -1.163,-4.795 -1.078,-4.767 -0.972,-4.758 -0.864,-4.765 -0.772,-4.789 -0.723,-4.818 -0.672,-4.864 -0.672,-4.283 -0.398,-4.283 hole: -0.918,-5.015 -0.998,-5.039 -1.058,-5.095 -1.064,-5.106 -1.083,-5.173 -1.094,-5.269 -1.096,-5.379 -1.089,-5.486 -1.075,-5.574 -1.056,-5.624 -0.982,-5.692 -0.895,-5.717 -0.805,-5.697 -0.728,-5.638 -0.699,-5.598 -0.682,-5.551 -0.674,-5.482 -0.672,-5.379 -0.676,-5.276 -0.685,-5.186 -0.698,-5.126 -0.7,-5.12 -0.754,-5.056 -0.831,-5.021
  region: 5.303,-2.884 5.367,-2.9 5.489,-2.957 5.594,-3.043 5.666,-3.147 5.676,-3.17 5.69,-3.231 5.699,-3.322 5.703,-3.413 5.703,-3.586 5.341,-3.586 5.193,-3.586 5.088,-3.59 5.021,-3.599 4.987,-3.616 4.979,-3.643 4.992,-3.684 5.016,-3.732 5.082,-3.811 5.174,-3.851 5.286,-3.85 5.412,-3.807 5.522,-3.753 5.613,-3.825 5.704,-3.897 5.619,-3.976 5.504,-4.051 5.364,-4.096 5.212,-4.109 5.066,-4.086 5.043,-4.078 4.914,-4.011 4.819,-3.911 4.754,-3.775 4.718,-3.6 4.718,-3.597 4.714,-3.406 4.727,-3.338 4.746,-3.238 4.81,-3.098 4.901,-2.988 5.016,-2.913 5.151,-2.877 hole: 5.263,-3.127 5.181,-3.128 5.098,-3.165 5.028,-3.226 4.986,-3.299 4.98,-3.338 5.004,-3.348 5.067,-3.357 5.16,-3.361 5.219,-3.362 5.329,-3.361 5.397,-3.359 5.433,-3.351 5.446,-3.337 5.443,-3.315 5.44,-3.306 5.395,-3.223 5.325,-3.156
  region: 0.028,-2.884 0.122,-2.902 0.22,-2.94 0.23,-2.944 0.305,-2.983 0.356,-3.02 0.373,-3.043 0.357,-3.081 0.318,-3.137 0.301,-3.158 0.231,-3.24 0.14,-3.186 0.054,-3.151 -0.045,-3.132 -0.141,-3.13 -0.215,-3.148 -0.233,-3.159 -0.266,-3.211 -0.271,-3.27 -0.245,-3.316 -0.23,-3.324 -0.186,-3.336 -0.107,-3.349 -0.01,-3.361 0.008,-3.363 0.164,-3.39 0.278,-3.436 0.353,-3.505 0.394,-3.601 0.407,-3.719 0.389,-3.852 0.331,-3.957 0.232,-4.034 0.093,-4.082 -0.062,-4.101 -0.189,-4.101 -0.291,-4.083 -0.361,-4.059 -0.45,-4.018 -0.531,-3.97 -0.56,-3.949 -0.635,-3.888 -0.545,-3.797 -0.455,-3.705 -0.352,-3.773 -0.25,-3.824 -0.14,-3.851 -0.034,-3.853 0.056,-3.833 0.119,-3.789 0.139,-3.753 0.136,-3.694 0.085,-3.649 -0.013,-3.618 -0.121,-3.604 -0.287,-3.576 -0.41,-3.525 -0.492,-3.447 -0.535,-3.343 -0.541,-3.218 -0.512,-3.089 -0.445,-2.991 -0.34,-2.924 -0.196,-2.888 -0.089,-2.881
  region: 4.025,-4.763 4.144,-4.794 4.244,-4.858 4.292,-4.905 4.371,-5.018 4.417,-5.149 4.432,-5.31 4.432,-5.323 4.433,-5.454 3.68,-5.454 3.696,-5.522 3.725,-5.584 3.776,-5.649 3.786,-5.659 3.877,-5.715 3.981,-5.724 4.101,-5.688 4.121,-5.678 4.183,-5.648 4.225,-5.63 4.232,-5.629 4.258,-5.644 4.306,-5.682 4.331,-5.702 4.382,-5.75 4.398,-5.781 4.387,-5.81 4.38,-5.817 4.338,-5.852 4.269,-5.894 4.221,-5.918 4.084,-5.961 3.932,-5.975 3.788,-5.958 3.748,-5.946 3.623,-5.88 3.531,-5.777 3.47,-5.637 3.44,-5.459 3.437,-5.366 3.447,-5.231 3.451,-5.169 3.494,-5.012 3.566,-4.894 3.668,-4.813 3.802,-4.769 3.875,-4.761 hole: 3.942,-5 3.846,-5.018 3.763,-5.072 3.705,-5.149 3.685,-5.231 3.709,-5.241 3.771,-5.249 3.861,-5.254 3.922,-5.254 4.032,-5.254 4.101,-5.25 4.14,-5.242 4.156,-5.227 4.159,-5.205 4.137,-5.138 4.084,-5.072 4.013,-5.021
  region: -2.687,-2.916 -2.662,-2.928 -2.576,-2.991 -2.495,-3.083 -2.434,-3.184 -2.417,-3.23 -2.401,-3.313 -2.392,-3.414 -2.391,-3.455 -2.391,-3.586 -3.143,-3.586 -3.127,-3.654 -3.088,-3.735 -3.019,-3.805 -2.937,-3.85 -2.885,-3.86 -2.814,-3.848 -2.73,-3.82 -2.701,-3.807 -2.595,-3.754 -2.504,-3.823 -2.452,-3.87 -2.424,-3.908 -2.423,-3.919 -2.448,-3.947 -2.502,-3.989 -2.551,-4.021 -2.685,-4.079 -2.834,-4.106 -2.982,-4.099 -3.1,-4.063 -3.222,-3.986 -3.308,-3.885 -3.363,-3.754 -3.387,-3.587 -3.389,-3.511 -3.381,-3.337 -3.38,-3.332 -3.352,-3.199 -3.299,-3.089 -3.236,-3.011 -3.118,-2.927 -2.979,-2.882 -2.831,-2.878 hole: -2.899,-3.128 -2.993,-3.151 -3.073,-3.213 -3.123,-3.303 -3.124,-3.306 -3.13,-3.332 -3.123,-3.348 -3.095,-3.357 -3.037,-3.361 -2.94,-3.362 -2.903,-3.362 -2.789,-3.36 -2.717,-3.356 -2.679,-3.346 -2.665,-3.33 -2.665,-3.325 -2.68,-3.284 -2.719,-3.228 -2.736,-3.208 -2.798,-3.152 -2.864,-3.13
  region: 2.056,-4.764 2.161,-4.789 2.192,-4.803 2.251,-4.838 2.296,-4.878 2.329,-4.929 2.353,-4.999 2.368,-5.093 2.378,-5.22 2.384,-5.386 2.386,-5.497 2.394,-5.976 2.256,-5.976 2.171,-5.973 2.128,-5.961 2.117,-5.941 2.111,-5.919 2.084,-5.923 2.048,-5.94 1.958,-5.967 1.842,-5.975 1.72,-5.963 1.611,-5.932 1.602,-5.928 1.503,-5.859 1.437,-5.762 1.407,-5.649 1.41,-5.608 1.414,-5.53 1.459,-5.417 1.52,-5.34 1.557,-5.307 1.594,-5.285 1.641,-5.272 1.711,-5.265 1.815,-5.26 1.857,-5.258 2.117,-5.25 2.116,-5.171 2.106,-5.088 2.07,-5.038 1.996,-5.006 1.994,-5.006 1.89,-4.993 1.788,-5.01 1.712,-5.05 1.682,-5.069 1.649,-5.067 1.599,-5.038 1.569,-5.018 1.511,-4.975 1.475,-4.943 1.47,-4.933 1.493,-4.886 1.563,-4.829 1.594,-4.809 1.681,-4.776 1.799,-4.757 1.93,-4.753 hole: 2.117,-5.454 1.995,-5.454 1.854,-5.461 1.755,-5.483 1.693,-5.523 1.679,-5.541 1.655,-5.608 1.676,-5.663 1.74,-5.702 1.844,-5.723 1.899,-5.726 1.991,-5.719 2.052,-5.691 2.067,-5.678 2.107,-5.606 2.117,-5.541
  region: -2.741,-4.766 -2.624,-4.797 -2.535,-4.854 -2.472,-4.928 -2.452,-4.96 -2.438,-4.993 -2.428,-5.035 -2.421,-5.095 -2.418,-5.179 -2.416,-5.296 -2.415,-5.453 -2.415,-5.495 -2.415,-5.976 -2.535,-5.976 -2.611,-5.971 -2.668,-5.958 -2.682,-5.949 -2.72,-5.935 -2.76,-5.949 -2.825,-5.967 -2.919,-5.974 -3.024,-5.971 -3.119,-5.958 -3.175,-5.941 -3.283,-5.872 -3.35,-5.776 -3.381,-5.648 -3.381,-5.645 -3.378,-5.588 -3.375,-5.505 -3.328,-5.394 -3.242,-5.311 -3.23,-5.303 -3.178,-5.278 -3.115,-5.263 -3.026,-5.256 -2.92,-5.254 -2.689,-5.254 -2.689,-5.158 -2.699,-5.083 -2.724,-5.033 -2.727,-5.03 -2.783,-5.008 -2.866,-5 -2.959,-5.004 -3.041,-5.02 -3.089,-5.044 -3.116,-5.063 -3.143,-5.067 -3.182,-5.051 -3.24,-5.012 -3.327,-4.945 -3.335,-4.939 -3.331,-4.916 -3.296,-4.877 -3.245,-4.835 -3.188,-4.799 -3.17,-4.79 -3.104,-4.773 -3.008,-4.761 -2.901,-4.756 -2.896,-4.756 hole: -2.689,-5.454 -2.827,-5.454 -2.958,-5.464 -3.057,-5.492 -3.119,-5.537 -3.138,-5.588 -3.117,-5.652 -3.082,-5.689 -3.013,-5.716 -2.923,-5.727 -2.83,-5.722 -2.756,-5.7 -2.735,-5.686 -2.699,-5.622 -2.689,-5.549
  region: -3.78,-2.91 -3.728,-2.935 -3.663,-2.981 -3.616,-3.03 -3.583,-3.092 -3.563,-3.175 -3.553,-3.288 -3.549,-3.438 -3.549,-3.503 -3.549,-3.645 -3.552,-3.747 -3.558,-3.817 -3.568,-3.865 -3.584,-3.901 -3.6,-3.925 -3.704,-4.028 -3.826,-4.09 -3.958,-4.109 -4.091,-4.082 -4.133,-4.062 -4.233,-4.01 -4.233,-4.832 -4.16,-4.794 -4.063,-4.765 -3.944,-4.757 -3.825,-4.771 -3.736,-4.802 -3.661,-4.862 -3.598,-4.947 -3.593,-4.956 -3.573,-4.997 -3.558,-5.038 -3.548,-5.089 -3.541,-5.156 -3.538,-5.249 -3.536,-5.377 -3.536,-5.52 -3.536,-5.976 -3.81,-5.976 -3.81,-5.134 -3.887,-5.07 -3.966,-5.018 -4.042,-5.009 -4.117,-5.033 -4.158,-5.057 -4.188,-5.09 -4.209,-5.141 -4.224,-5.216 -4.233,-5.323 -4.238,-5.469 -4.24,-5.566 -4.246,-5.964 -4.377,-5.972 -4.507,-5.979 -4.507,-3.507 -4.507,-2.889 -4.37,-2.889 -4.288,-2.892 -4.246,-2.903 -4.233,-2.926 -4.233,-2.927 -4.228,-2.949 -4.202,-2.946 -4.152,-2.922 -4.036,-2.885 -3.905,-2.881 hole: -4.063,-3.14 -4.12,-3.153 -4.176,-3.201 -4.214,-3.295 -4.232,-3.433 -4.233,-3.507 -4.226,-3.644 -4.203,-3.74 -4.159,-3.8 -4.091,-3.829 -4.022,-3.835 -3.944,-3.828 -3.892,-3.802 -3.859,-3.766 -3.834,-3.729 -3.819,-3.687 -3.812,-3.628 -3.812,-3.539 -3.814,-3.465 -3.819,-3.354 -3.827,-3.281 -3.84,-3.234 -3.861,-3.203 -3.881,-3.185 -3.965,-3.146
  region: 337 vertices and 0 holes, not listed, extent -4.435,-1.992 4.46,5.964

## OSHW-Logo_11.4x12mm_SilkScreen [mm]
F.SilkS:
  drawing of 18 lines, arcs and shapes, not listed